# EAGLE library part PH_1X10 (library PP_Connectors)
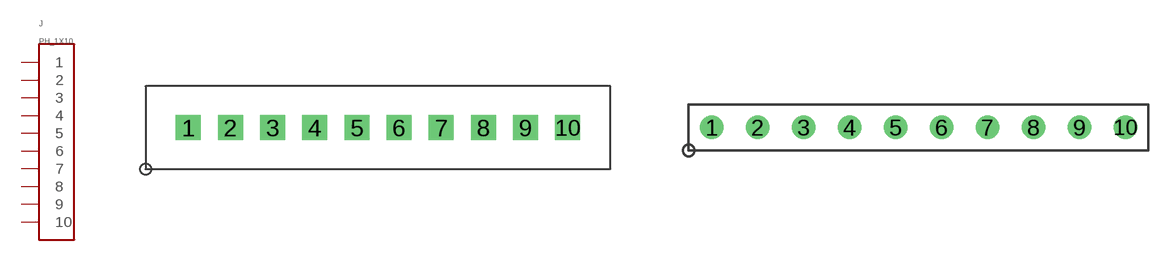
[diagram p8: symbol with the pads of HEADER_01X10_PTH; footprints HEADER_01X10_PTH, HEADER_01X10_PTH_ROUND]

Designator prefix J

## PH_1X10PTH  [HEADER_01X10_PTH]
1  1
2  2
3  3
4  4
5  5
6  6
7  7
8  8
9  9
10  10

## PH_1X10PTH_ROUND  [HEADER_01X10_PTH_ROUND]
Pads as for HEADER_01X10_PTH

## PH_1X10KK_10  [MOLEX_KK_10]
P$1  1
P$2  2
P$3  3
P$4  4
P$5  5
P$6  6
P$7  7
P$8  8
P$9  9
P$10  10

## Footprint HEADER_01X10_PTH (pad centres in mm)
drill 1 square: 1 -11.43,0; 2 -8.89,0; 3 -6.35,0; 4 -3.81,0; 5 -1.27,0; 6 1.27,0; 7 3.81,0; 8 6.35,0; 9 8.89,0; 10 11.43,0

## Footprint HEADER_01X10_PTH_ROUND (pad centres in mm)
drill 0.8: 1 -11.43,0; 2 -8.89,0; 3 -6.35,0; 4 -3.81,0; 5 -1.27,0; 6 1.27,0; 7 3.81,0; 8 6.35,0; 9 8.89,0; 10 11.43,0

## Footprint MOLEX_KK_10 (pad centres in mm)
drill 2: P$1 -17.12,0; P$2 -13.157,0; P$3 -9.195,0; P$4 -5.232,0; P$5 -1.27,0; P$6 2.692,0; P$7 6.655,0; P$8 10.617,0; P$9 14.58,0; P$10 18.39,0